# EAGLE library part 74HC125D (library 74HC125D)
Quad Bus Buffer, Non-Inverted 3-State Outputs CMOS Digital Integrated Circuits Silicon Monolithic : SOIC14 Source: Datasheet <https://toshiba.semicon-storage.com/info/docget.jsp?did=37028&prodName=74HC125D>
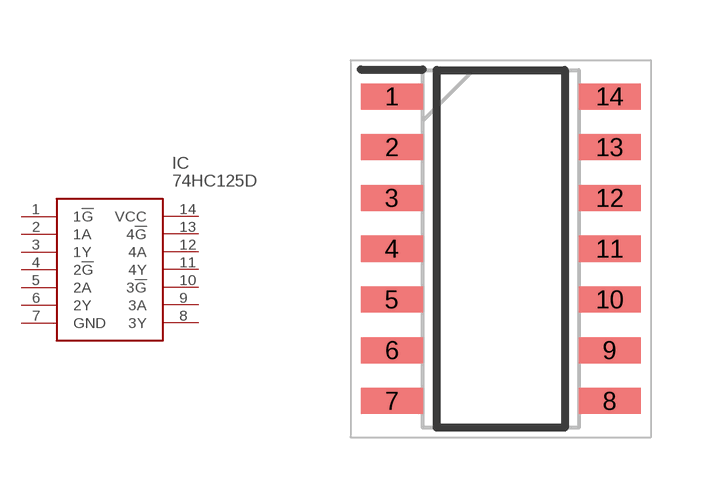
[diagram p0: symbol with the pads of SOIC127P600X175-14N; footprint SOIC127P600X175-14N]

Designator prefix IC

## 74HC125D (Description: Quad Bus Buffer, Non-Inverted 3-State Outputs CMOS Digital Integrated Circuits Silicon Monolithic : SOIC14; Height: 1.75mm; Manufacturer_Name: Toshiba; Manufacturer_Part_Number: 74HC125D; Mouser_Part_Number: 757-74HC125D; Mouser_Price-Stock: https://www.mouser.co.uk/ProductDetail/Toshiba/74HC125D?qs=7EBvPakHacXdKF96aoPC3w%3D%3D; Simulation_Data: https://toshiba.semicon-storage.com/info/docget.jsp?did=53014&prodName=74HC125D&displang=en&returnFlg=true)  [SOIC127P600X175-14N]
1  1!G
2  1A
3  1Y
4  2!G
5  2A
6  2Y
7  GND
8  3Y
9  3A
10  3!G
11  4Y
12  4A
13  4!G
14  VCC

## Footprint SOIC127P600X175-14N (pad centres in mm)
SOIC14
smd 1.55 x 0.65: 1 -2.725,3.81; 2 -2.725,2.54; 3 -2.725,1.27; 4 -2.725,0; 5 -2.725,-1.27; 6 -2.725,-2.54; 7 -2.725,-3.81; 8 2.725,-3.81; 9 2.725,-2.54; 10 2.725,-1.27; 11 2.725,0; 12 2.725,1.27; 13 2.725,2.54; 14 2.725,3.81